# Altium schematic symbol library FAN53528DUC40X.SchLib: 2 symbols
Pins are listed as number, name and electrical type; pins without a type are passive.

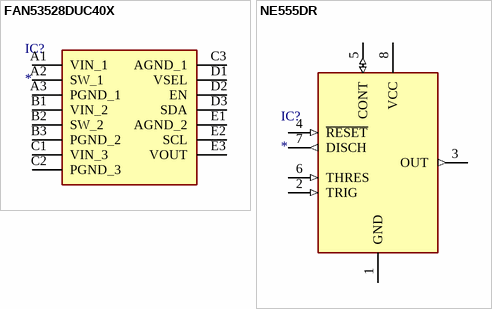
[diagram p0: symbols FAN53528DUC40X to NE555DR]

## FAN53528DUC40X
designator IC?
Integrated Circuit; Manufacturer_Name: onsemi; Manufacturer_Part_Number: FAN53528DUC40X; Datasheet Link: https://www.onsemi.com/pub/Collateral/FAN53528-D.PDF; Height: 0.625mm
footprint BGA15C40P3X5_131X202X62
pins: A1 VIN_1, A2 SW_1, A3 PGND_1, B1 VIN_2, B2 SW_2, B3 PGND_2, C1 VIN_3, C2 PGND_3, C3 AGND_1, D1 VSEL, D2 EN, D3 SDA, E1 AGND_2, E2 SCL, E3 VOUT

## NE555DR
designator IC?
Integrated Circuit; Manufacturer_Name: Texas Instruments; Manufacturer_Part_Number: NE555DR; Datasheet Link: http://www.ti.com/lit/ds/symlink/ne555.pdf; Height: 1.75mm; Mouser Part Number: 595-NE555DR; Mouser Price/Stock: https://www.mouser.com/Search/Refine.aspx?Keyword=595-NE555DR; RS Part Number: 1218414; RS Price/Stock: http://uk.rs-online.com/web/p/products/1218414
footprint SOIC127P600X175-8N
pins: 1 GND (power), 2 TRIG (in), 3 OUT (out), 4 ~{RESET} (in), 5 CONT (io), 6 THRES (in), 7 DISCH (out), 8 VCC (power)